# Altium schematic symbol library STM32F301C8Y6TR.SchLib: 1 symbol
Pins are listed as number, name and electrical type; pins without a type are passive.

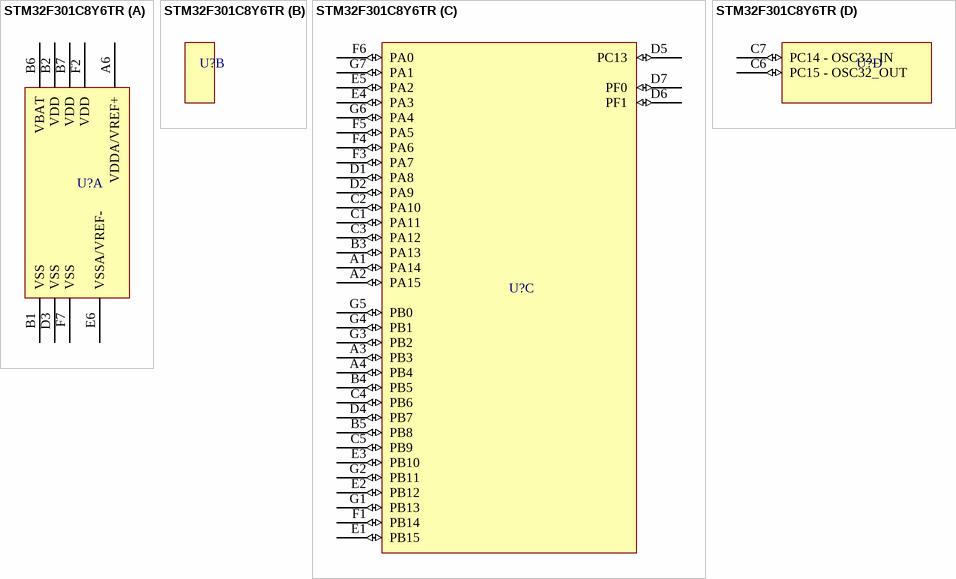
[diagram p0: symbol STM32F301C8Y6TR]

## STM32F301C8Y6TR
designator U?  (value not drawn)
Mainstream Mixed signals MCUs Arm Cortex-M4 core with DSP and FPU, 64 Kbytes of Flash memory, 72 MHz CPU, 12-bit ADC 5 MSPS, Comparator, Op-Amp
part A pins: A6 VDDA/VREF+ (power), B1 VSS (power), B2 VDD (power), B6 VBAT (power), B7 VDD (power), D3 VSS (power), E6 VSSA/VREF- (power), F2 VDD (power), F7 VSS (power)
part C pins: A1 PA14 (io), A2 PA15 (io), A3 PB3 (io), A4 PB4 (io), B3 PA13 (io), B4 PB5 (io), B5 PB8 (io), C1 PA11 (io), C2 PA10 (io), C3 PA12 (io), C4 PB6 (io), C5 PB9 (io), D1 PA8 (io), D2 PA9 (io), D4 PB7 (io), D5 PC13 (io), D6 PF1 (io), D7 PF0 (io), E1 PB15 (io), E2 PB12 (io), E3 PB10 (io), E4 PA3 (io), E5 PA2 (io), F1 PB14 (io), F3 PA7 (io), F4 PA6 (io), F5 PA5 (io), F6 PA0 (io), G1 PB13 (io), G2 PB11 (io), G3 PB2 (io), G4 PB1 (io), G5 PB0 (io), G6 PA4 (io), G7 PA1 (io)
part D pins: C6 PC15 - OSC32_OUT (io), C7 PC14 - OSC32_IN (io)